# Altium footprint library mcu-chip.PcbLib: 82 footprints (part 4 of 6)
Each footprint in its own frame and in the unit in brackets; x right, y up, seen from the top. Pads: shape width x height; smd on the part's side, far side on the other; paste and mask are expansions set on the pad; w line width, h text height; cw(c..) or ccw(c..) is an arc to the next point about the centre after c.
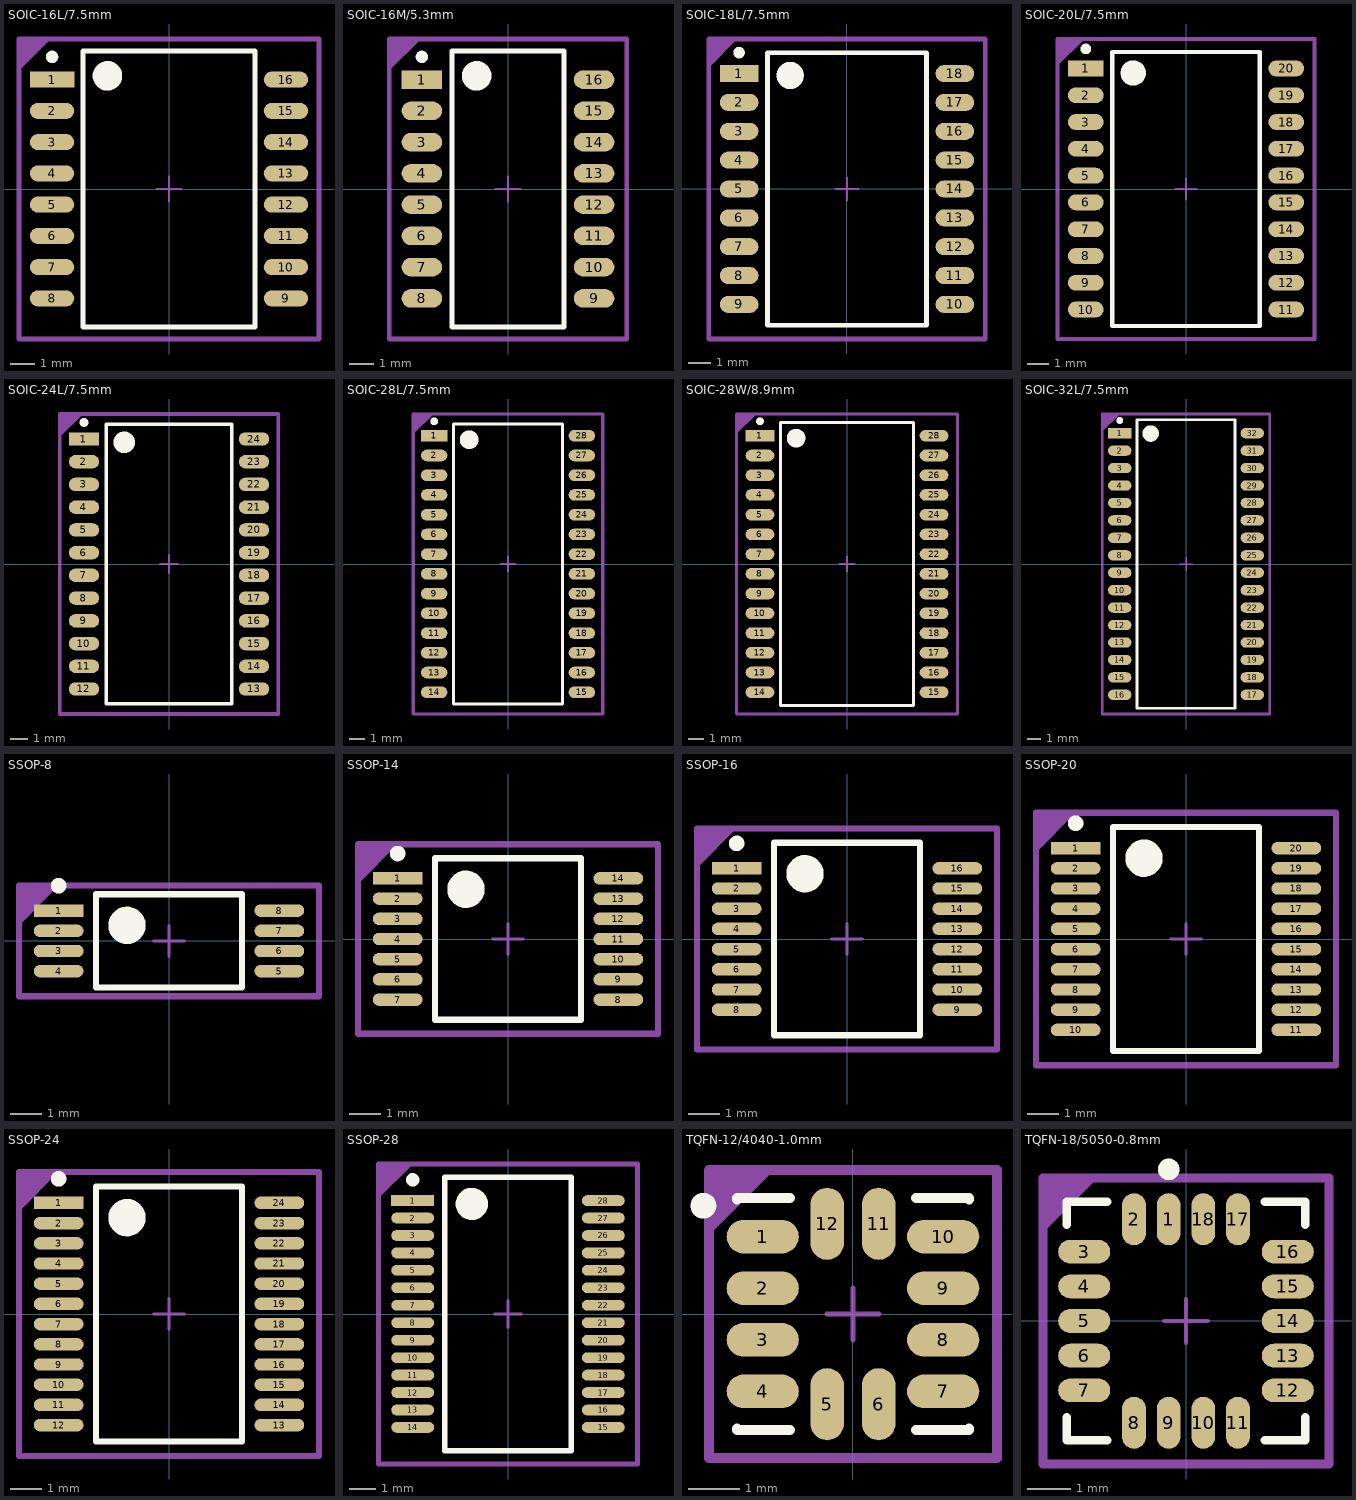
[diagram p3: the footprints below, top view; thin cyan lines are the x and y axes]

## SOIC-16L/7.5mm [mm] "SOIC, 16-Leads, Body 10,60x7,50mm, Pitch 1,27mm, IPC Medium Density"
height 1.7
pads (16):
  rect 1.8x0.65 smd: 1(-4.75,4.445)
  oval 1.8x0.65 smd: 2(-4.75,3.175) 3(-4.75,1.905) 4(-4.75,0.635) 5(-4.75,-0.635) 6(-4.75,-1.905) 7(-4.75,-3.175) 8(-4.75,-4.445) 9(4.75,-4.445) 10(4.75,-3.175) 11(4.75,-1.905) 12(4.75,-0.635) 13(4.75,0.635) 14(4.75,1.905) 15(4.75,3.175) 16(4.75,4.445)
Top Overlay:
  circle w0.25: c-4.75,5.37 r0.125
  circle w0.6: c-2.5,4.6 r0.3
  lines w0.2: -3.5,-5.6 -3.5,5.6 3.5,5.6 3.5,-5.6 -3.5,-5.6
Mechanical 13:
  region: -6.096,6.096 -6.096,4.826 -4.826,6.096
  lines w0.2: -6.096,-6.096 -6.096,6.096 6.096,6.096 6.096,-6.096 -6.096,-6.096
  text ".Designator" at -2.77,-0.67 h1.6
Mechanical 15:
  lines w0.05: -6.096,-6.096 -6.096,6.096 6.096,6.096 6.096,-6.096 -6.096,-6.096
  lines w0.1: -0.5,0 0.5,0 ; 0,-0.5 0,0.5
3D body: height 1.7, standoff 0.1, extent -3.75,-5.6 3.75,5.6

## SOIC-16M/5.3mm [mm] "SOIC, 16-Leads, Body 10,60x5,60mm, Pitch 1,27mm, IPC Medium Density"
height 1.7
pads (16):
  rect 1.65x0.75 smd: 1(-3.5,4.445)
  oval 1.65x0.75 smd: 2(-3.5,3.175) 3(-3.5,1.905) 4(-3.5,0.635) 5(-3.5,-0.635) 6(-3.5,-1.905) 7(-3.5,-3.175) 8(-3.5,-4.445) 9(3.5,-4.445) 10(3.5,-3.175) 11(3.5,-1.905) 12(3.5,-0.635) 13(3.5,0.635) 14(3.5,1.905) 15(3.5,3.175) 16(3.5,4.445)
Top Overlay:
  circle w0.25: c-3.5,5.37 r0.125
  circle w0.6: c-1.275,4.6 r0.3
  lines w0.2: -2.275,-5.6 -2.275,5.6 2.275,5.6 2.275,-5.6 -2.275,-5.6
Mechanical 13:
  region: -4.826,6.096 -4.826,4.826 -3.556,6.096
  lines w0.2: -4.826,-6.096 -4.826,6.096 4.826,6.096 4.826,-6.096 -4.826,-6.096
  text ".Designator" at -2.66,-0.71 h1.6
Mechanical 15:
  lines w0.05: -4.826,-6.096 -4.826,6.096 4.826,6.096 4.826,-6.096 -4.826,-6.096
  lines w0.1: -0.5,0 0.5,0 ; 0,-0.5 0,0.5
3D body: height 1.7, standoff 0.1, extent -2.8,-5.6 2.8,5.6

## SOIC-18L/7.5mm [mm] "SOIC, 18-Leads, Body 11,75x7,50mm, Pitch 1,27mm, IPC Medium Density"
height 1.7
pads (18):
  rect 1.7x0.75 smd: 1(-4.75,5.08)
  oval 1.7x0.75 smd: 2(-4.75,3.81) 3(-4.75,2.54) 4(-4.75,1.27) 5(-4.75,0) 6(-4.75,-1.27) 7(-4.75,-2.54) 8(-4.75,-3.81) 9(-4.75,-5.08) 10(4.75,-5.08) 11(4.75,-3.81) 12(4.75,-2.54) 13(4.75,-1.27) 14(4.75,0) 15(4.75,1.27) 16(4.75,2.54) 17(4.75,3.81) 18(4.75,5.08)
Top Overlay:
  circle w0.6: c-2.5,5 r0.3
  circle w0.25: c-4.75,6.005 r0.125
  lines w0.2: -3.5,-6 3.5,-6 3.5,6 -3.5,6 -3.5,-6
Mechanical 13:
  region: -6.096,6.604 -6.096,5.334 -4.826,6.604
  lines w0.2: -6.096,-6.604 6.096,-6.604 6.096,6.604 -6.096,6.604 -6.096,-6.604
  text ".Designator" at -3.36,-0.85 h2
Mechanical 15:
  lines w0.05: -6.096,-6.604 6.096,-6.604 6.096,6.604 -6.096,6.604 -6.096,-6.604
  lines w0.1: -0.5,0 0.5,0 ; 0,-0.5 0,0.5
3D body: height 1.7, standoff 0.1, extent -3.75,-6 3.75,6

## SOIC-20L/7.5mm [mm] "SOIC, 20-Leads, Body 12,70x7,50mm, Pitch 1,27mm, IPC Medium Density"
height 1.7
pads (20):
  rect 1.7x0.75 smd: 1(-4.75,5.715)
  oval 1.7x0.75 smd: 2(-4.75,4.445) 3(-4.75,3.175) 4(-4.75,1.905) 5(-4.75,0.635) 6(-4.75,-0.635) 7(-4.75,-1.905) 8(-4.75,-3.175) 9(-4.75,-4.445) 10(-4.75,-5.715) 11(4.75,-5.715) 12(4.75,-4.445) 13(4.75,-3.175) 14(4.75,-1.905) 15(4.75,-0.635) 16(4.75,0.635) 17(4.75,1.905) 18(4.75,3.175) 19(4.75,4.445) 20(4.75,5.715)
Top Overlay:
  circle w0.6: c-2.5,5.5 r0.3
  circle w0.25: c-4.75,6.64 r0.125
  lines w0.2: -3.5,-6.5 3.5,-6.5 3.5,6.5 -3.5,6.5 -3.5,-6.5
Mechanical 13:
  region: -6.096,7.112 -6.096,5.842 -4.826,7.112
  lines w0.2: -6.096,-7.112 6.096,-7.112 6.096,7.112 -6.096,7.112 -6.096,-7.112
  text ".Designator" at -3.33,-0.94 h2
Mechanical 15:
  lines w0.05: -6.096,-7.112 6.096,-7.112 6.096,7.112 -6.096,7.112 -6.096,-7.112
  lines w0.1: -0.5,0 0.5,0 ; 0,-0.5 0,0.5
3D body: height 1.7, standoff 0.1, extent -3.75,-6.5 3.75,6.5

## SOIC-24L/7.5mm [mm] "SOIC, 24-Leads, Body 15,30x7,50mm, Pitch 1,27mm, IPC Medium Density"
height 1.7
pads (24):
  rect 1.7x0.75 smd: 1(-4.75,6.985)
  oval 1.7x0.75 smd: 2(-4.75,5.715) 3(-4.75,4.445) 4(-4.75,3.175) 5(-4.75,1.905) 6(-4.75,0.635) 7(-4.75,-0.635) 8(-4.75,-1.905) 9(-4.75,-3.175) 10(-4.75,-4.445) 11(-4.75,-5.715) 12(-4.75,-6.985) 13(4.75,-6.985) 14(4.75,-5.715) 15(4.75,-4.445) 16(4.75,-3.175) 17(4.75,-1.905) 18(4.75,-0.635) 19(4.75,0.635) 20(4.75,1.905) 21(4.75,3.175) 22(4.75,4.445) 23(4.75,5.715) 24(4.75,6.985)
Top Overlay:
  circle w0.6: c-2.5,6.8 r0.3
  circle w0.25: c-4.75,7.91 r0.125
  lines w0.2: -3.5,-7.8 3.5,-7.8 3.5,7.8 -3.5,7.8 -3.5,-7.8
Mechanical 13:
  region: -6.096,8.382 -6.096,7.112 -4.826,8.382
  lines w0.2: -6.096,-8.382 6.096,-8.382 6.096,8.382 -6.096,8.382 -6.096,-8.382
  text ".Designator" at -3.33,-0.87 h2
Mechanical 15:
  lines w0.05: -6.096,-8.382 6.096,-8.382 6.096,8.382 -6.096,8.382 -6.096,-8.382
  lines w0.1: -0.5,0 0.5,0 ; 0,-0.5 0,0.5
3D body: height 1.7, standoff 0.1, extent -3.75,-7.8 3.75,7.8

## SOIC-28L/7.5mm [mm] "SOIC, 28-Leads, Body 17,90x7,50mm, Pitch 1,27mm, IPC Medium Density"
height 1.7
pads (28):
  rect 1.7x0.75 smd: 1(-4.75,8.255)
  oval 1.7x0.75 smd: 2(-4.75,6.985) 3(-4.75,5.715) 4(-4.75,4.445) 5(-4.75,3.175) 6(-4.75,1.905) 7(-4.75,0.635) 8(-4.75,-0.635) 9(-4.75,-1.905) 10(-4.75,-3.175) 11(-4.75,-4.445) 12(-4.75,-5.715) 13(-4.75,-6.985) 14(-4.75,-8.255) 15(4.75,-8.255) 16(4.75,-6.985) 17(4.75,-5.715) 18(4.75,-4.445) 19(4.75,-3.175) 20(4.75,-1.905) 21(4.75,-0.635) 22(4.75,0.635) 23(4.75,1.905) 24(4.75,3.175) 25(4.75,4.445) 26(4.75,5.715) 27(4.75,6.985) 28(4.75,8.255)
Top Overlay:
  circle w0.25: c-4.75,9.18 r0.125
  circle w0.6: c-2.5,8 r0.3
  lines w0.2: -3.5,-9 -3.5,9 3.5,9 3.5,-9 -3.5,-9
Mechanical 13:
  region: -6.096,9.652 -6.096,8.382 -4.826,9.652
  lines w0.2: -6.096,-9.652 -6.096,9.652 6.096,9.652 6.096,-9.652 -6.096,-9.652
  text ".Designator" at -3.33,-0.9 h2
Mechanical 15:
  lines w0.05: -6.096,-9.652 -6.096,9.652 6.096,9.652 6.096,-9.652 -6.096,-9.652
  lines w0.1: -0.5,0 0.5,0 ; 0,-0.5 0,0.5
3D body: height 1.7, standoff 0.1, extent -3.75,-9 3.75,9

## SOIC-28W/8.9mm [mm] "SOIC, 28-Leads, Body 18,10x8,80mm, Pitch 1,27mm, IPC Medium Density"
height 1.7
pads (28):
  rect 1.85x0.75 smd: 1(-5.6,8.255)
  oval 1.85x0.75 smd: 2(-5.6,6.985) 3(-5.6,5.715) 4(-5.6,4.445) 5(-5.6,3.175) 6(-5.6,1.905) 7(-5.6,0.635) 8(-5.6,-0.635) 9(-5.6,-1.905) 10(-5.6,-3.175) 11(-5.6,-4.445) 12(-5.6,-5.715) 13(-5.6,-6.985) 14(-5.6,-8.255) 15(5.6,-8.255) 16(5.6,-6.985) 17(5.6,-5.715) 18(5.6,-4.445) 19(5.6,-3.175) 20(5.6,-1.905) 21(5.6,-0.635) 22(5.6,0.635) 23(5.6,1.905) 24(5.6,3.175) 25(5.6,4.445) 26(5.6,5.715) 27(5.6,6.985) 28(5.6,8.255)
Top Overlay:
  circle w0.25: c-5.6,9.18 r0.125
  circle w0.6: c-3.275,8.1 r0.3
  lines w0.2: -4.275,-9.1 -4.275,9.1 4.275,9.1 4.275,-9.1 -4.275,-9.1
Mechanical 13:
  region: -7.112,9.652 -7.112,8.382 -5.842,9.652
  lines w0.2: -7.112,-9.652 -7.112,9.652 7.112,9.652 7.112,-9.652 -7.112,-9.652
  text ".Designator" at -3.33,-0.96 h2
Mechanical 15:
  lines w0.05: -7.112,-9.652 -7.112,9.652 7.112,9.652 7.112,-9.652 -7.112,-9.652
  lines w0.1: -0.5,0 0.5,0 ; 0,-0.5 0,0.5
3D body: height 1.7, standoff 0.1, extent -4.5,-9.1 4.5,9.1

## SOIC-32L/7.5mm [mm] "SOIC, 32-Leads, Body 20,80x7,50mm, Pitch 1,27mm, IPC Medium Density"
height 1.7
pads (32):
  rect 1.7x0.75 smd: 1(-4.825,9.525)
  oval 1.7x0.75 smd: 2(-4.825,8.255) 3(-4.825,6.985) 4(-4.825,5.715) 5(-4.825,4.445) 6(-4.825,3.175) 7(-4.825,1.905) 8(-4.825,0.635) 9(-4.825,-0.635) 10(-4.825,-1.905) 11(-4.825,-3.175) 12(-4.825,-4.445) 13(-4.825,-5.715) 14(-4.825,-6.985) 15(-4.825,-8.255) 16(-4.825,-9.525) 17(4.825,-9.525) 18(4.825,-8.255) 19(4.825,-6.985) 20(4.825,-5.715) 21(4.825,-4.445) 22(4.825,-3.175) 23(4.825,-1.905) 24(4.825,-0.635) 25(4.825,0.635) 26(4.825,1.905) 27(4.825,3.175) 28(4.825,4.445) 29(4.825,5.715) 30(4.825,6.985) 31(4.825,8.255) 32(4.825,9.525)
Top Overlay:
  circle w0.25: c-4.825,10.45 r0.125
  circle w0.6: c-2.575,9.5 r0.3
  lines w0.2: -3.575,-10.5 -3.575,10.5 3.575,10.5 3.575,-10.5 -3.575,-10.5
Mechanical 13:
  region: -6.096,10.922 -6.096,9.652 -4.826,10.922
  lines w0.2: -6.096,-10.922 -6.096,10.922 6.096,10.922 6.096,-10.922 -6.096,-10.922
  text ".Designator" at -3.36,-0.92 h2
Mechanical 15:
  lines w0.05: -6.096,-10.922 -6.096,10.922 6.096,10.922 6.096,-10.922 -6.096,-10.922
  lines w0.1: -0.5,0 0.5,0 ; 0,-0.5 0,0.5
3D body: height 1.7, standoff 0.1, extent -3.75,-10.5 3.75,10.5

## SSOP-8 [mm] "SOP, 8-Leads, Body 3,00x5,30mm, Pitch 0,65mm, IPC Medium Density"
height 1.9
pads (8):
  rect 1.6x0.4 smd: 1(-3.55,0.975)
  oval 1.6x0.4 smd: 2(-3.55,0.325) 3(-3.55,-0.325) 4(-3.55,-0.975) 5(3.55,-0.975) 6(3.55,-0.325) 7(3.55,0.325) 8(3.55,0.975)
Top Overlay:
  circle w0.6: c-1.35,0.5 r0.3
  circle w0.25: c-3.55,1.775 r0.125
  lines w0.2: -2.35,-1.5 2.35,-1.5 2.35,1.5 -2.35,1.5 -2.35,-1.5
Mechanical 13:
  region: -4.826,1.778 -4.826,0.508 -3.556,1.778
  lines w0.2: -4.826,-1.778 4.826,-1.778 4.826,1.778 -4.826,1.778 -4.826,-1.778
  text ".Designator" at -2.66,-0.74 h1.6
Mechanical 15:
  lines w0.05: -4.826,-1.778 4.826,-1.778 4.826,1.778 -4.826,1.778 -4.826,-1.778
  lines w0.1: -0.5,0 0.5,0 ; 0,-0.5 0,0.5
3D body: height 1.9, standoff 0.1, extent -2.65,-1.5 2.65,1.5

## SSOP-14 [mm] "SOP, 14-Leads, Body 5,05x5,30mm, Pitch 0,65mm, IPC Medium Density"
height 1.9
pads (14):
  rect 1.6x0.4 smd: 1(-3.55,1.95)
  oval 1.6x0.4 smd: 2(-3.55,1.3) 3(-3.55,0.65) 4(-3.55,0) 5(-3.55,-0.65) 6(-3.55,-1.3) 7(-3.55,-1.95) 8(3.55,-1.95) 9(3.55,-1.3) 10(3.55,-0.65) 11(3.55,0) 12(3.55,0.65) 13(3.55,1.3) 14(3.55,1.95)
Top Overlay:
  circle w0.6: c-1.35,1.6 r0.3
  circle w0.25: c-3.55,2.75 r0.125
  lines w0.2: -2.35,-2.6 2.35,-2.6 2.35,2.6 -2.35,2.6 -2.35,-2.6
Mechanical 13:
  region: -4.826,3.048 -4.826,1.778 -3.556,3.048
  lines w0.2: -4.826,-3.048 4.826,-3.048 4.826,3.048 -4.826,3.048 -4.826,-3.048
  text ".Designator" at -2.68,-0.66 h1.6
Mechanical 15:
  lines w0.05: -4.826,-3.048 4.826,-3.048 4.826,3.048 -4.826,3.048 -4.826,-3.048
  lines w0.1: -0.5,0 0.5,0 ; 0,-0.5 0,0.5
3D body: height 1.9, standoff 0.1, extent -2.65,-2.6 2.65,2.6

## SSOP-16 [mm] "SOP, 16-Leads, Body 6,10x5,30mm, Pitch 0,65mm, IPC Medium Density"
height 1.9
pads (16):
  rect 1.6x0.4 smd: 1(-3.55,2.275)
  oval 1.6x0.4 smd: 2(-3.55,1.625) 3(-3.55,0.975) 4(-3.55,0.325) 5(-3.55,-0.325) 6(-3.55,-0.975) 7(-3.55,-1.625) 8(-3.55,-2.275) 9(3.55,-2.275) 10(3.55,-1.625) 11(3.55,-0.975) 12(3.55,-0.325) 13(3.55,0.325) 14(3.55,0.975) 15(3.55,1.625) 16(3.55,2.275)
Top Overlay:
  circle w0.25: c-3.55,3.075 r0.125
  circle w0.6: c-1.35,2.1 r0.3
  lines w0.2: -2.35,-3.1 -2.35,3.1 2.35,3.1 2.35,-3.1 -2.35,-3.1
Mechanical 13:
  region: -4.826,3.556 -4.826,2.286 -3.556,3.556
  lines w0.2: -4.826,-3.556 -4.826,3.556 4.826,3.556 4.826,-3.556 -4.826,-3.556
  text ".Designator" at -2.68,-0.71 h1.6
Mechanical 15:
  lines w0.05: -4.826,-3.556 -4.826,3.556 4.826,3.556 4.826,-3.556 -4.826,-3.556
  lines w0.1: -0.5,0 0.5,0 ; 0,-0.5 0,0.5
3D body: height 1.9, standoff 0.1, extent -2.65,-3.1 2.65,3.1

## SSOP-20 [mm] "SOP, 20-Leads, Body 7,20x5,30mm, Pitch 0,65mm, IPC Medium Density"
height 1.9
pads (20):
  rect 1.6x0.4 smd: 1(-3.55,2.925)
  oval 1.6x0.4 smd: 2(-3.55,2.275) 3(-3.55,1.625) 4(-3.55,0.975) 5(-3.55,0.325) 6(-3.55,-0.325) 7(-3.55,-0.975) 8(-3.55,-1.625) 9(-3.55,-2.275) 10(-3.55,-2.925) 11(3.55,-2.925) 12(3.55,-2.275) 13(3.55,-1.625) 14(3.55,-0.975) 15(3.55,-0.325) 16(3.55,0.325) 17(3.55,0.975) 18(3.55,1.625) 19(3.55,2.275) 20(3.55,2.925)
Top Overlay:
  circle w0.6: c-1.35,2.6 r0.3
  circle w0.25: c-3.55,3.725 r0.125
  lines w0.2: -2.35,-3.6 2.35,-3.6 2.35,3.6 -2.35,3.6 -2.35,-3.6
Mechanical 13:
  region: -4.826,4.064 -4.826,2.794 -3.556,4.064
  lines w0.2: -4.826,-4.064 4.826,-4.064 4.826,4.064 -4.826,4.064 -4.826,-4.064
  text ".Designator" at -2.68,-0.75 h1.6
Mechanical 15:
  lines w0.05: -4.826,-4.064 4.826,-4.064 4.826,4.064 -4.826,4.064 -4.826,-4.064
  lines w0.1: -0.5,0 0.5,0 ; 0,-0.5 0,0.5
3D body: height 1.9, standoff 0.1, extent -2.65,-3.6 2.65,3.6

## SSOP-24 [mm] "SOP, 24-Leads, Body 8,20x5,30mm, Pitch 0,65mm, IPC Medium Density"
height 1.9
pads (24):
  rect 1.6x0.4 smd: 1(-3.55,3.575)
  oval 1.6x0.4 smd: 2(-3.55,2.925) 3(-3.55,2.275) 4(-3.55,1.625) 5(-3.55,0.975) 6(-3.55,0.325) 7(-3.55,-0.325) 8(-3.55,-0.975) 9(-3.55,-1.625) 10(-3.55,-2.275) 11(-3.55,-2.925) 12(-3.55,-3.575) 13(3.55,-3.575) 14(3.55,-2.925) 15(3.55,-2.275) 16(3.55,-1.625) 17(3.55,-0.975) 18(3.55,-0.325) 19(3.55,0.325) 20(3.55,0.975) 21(3.55,1.625) 22(3.55,2.275) 23(3.55,2.925) 24(3.55,3.575)
Top Overlay:
  circle w0.6: c-1.35,3.1 r0.3
  circle w0.25: c-3.55,4.35 r0.125
  lines w0.2: -2.35,-4.1 2.35,-4.1 2.35,4.1 -2.35,4.1 -2.35,-4.1
Mechanical 13:
  region: -4.826,4.572 -4.826,3.302 -3.556,4.572
  lines w0.2: -4.826,-4.572 4.826,-4.572 4.826,4.572 -4.826,4.572 -4.826,-4.572
  text ".Designator" at -2.66,-0.73 h1.6
Mechanical 15:
  lines w0.05: -4.826,-4.572 4.826,-4.572 4.826,4.572 -4.826,4.572 -4.826,-4.572
  lines w0.1: -0.5,0 0.5,0 ; 0,-0.5 0,0.5
3D body: height 1.9, standoff 0.1, extent -2.65,-4.1 2.65,4.1

## SSOP-28 [mm] "SOP, 28-Leads, Body 10,10x5,30mm, Pitch 0,65mm, IPC Medium Density"
height 1.9
pads (28):
  rect 1.6x0.4 smd: 1(-3.55,4.225)
  oval 1.6x0.4 smd: 2(-3.55,3.575) 3(-3.55,2.925) 4(-3.55,2.275) 5(-3.55,1.625) 6(-3.55,0.975) 7(-3.55,0.325) 8(-3.55,-0.325) 9(-3.55,-0.975) 10(-3.55,-1.625) 11(-3.55,-2.275) 12(-3.55,-2.925) 13(-3.55,-3.575) 14(-3.55,-4.225) 15(3.55,-4.225) 16(3.55,-3.575) 17(3.55,-2.925) 18(3.55,-2.275) 19(3.55,-1.625) 20(3.55,-0.975) 21(3.55,-0.325) 22(3.55,0.325) 23(3.55,0.975) 24(3.55,1.625) 25(3.55,2.275) 26(3.55,2.925) 27(3.55,3.575) 28(3.55,4.225)
Top Overlay:
  circle w0.25: c-3.55,5 r0.125
  circle w0.6: c-1.35,4.1 r0.3
  lines w0.2: -2.35,-5.1 -2.35,5.1 2.35,5.1 2.35,-5.1 -2.35,-5.1
Mechanical 13:
  region: -4.826,5.588 -4.826,4.318 -3.556,5.588
  lines w0.2: -4.826,-5.588 -4.826,5.588 4.826,5.588 4.826,-5.588 -4.826,-5.588
  text ".Designator" at -2.67,-0.8 h1.6
Mechanical 15:
  lines w0.05: -4.826,-5.588 -4.826,5.588 4.826,5.588 4.826,-5.588 -4.826,-5.588
  lines w0.1: -0.5,0 0.5,0 ; 0,-0.5 0,0.5
3D body: height 1.9, standoff 0.1, extent -2.65,-5.1 2.65,5.1

## TQFN-12/4040-1.0mm [mm] "QFN, 12-Leads, Body 4,00x4,00mm, Pitch 1,00mm, IPC Medium Density"
height 0.9
pads (12):
  oval 1.4x0.65 smd: 1(-1.75,1.5) 2(-1.75,0.5) 3(-1.75,-0.5) 4(-1.75,-1.5) 7(1.75,-1.5) 8(1.75,-0.5) 9(1.75,0.5) 10(1.75,1.5)
  oval 0.65x1.4 smd: 5(-0.5,-1.75) 6(0.5,-1.75) 11(0.5,1.75) 12(-0.5,1.75)
Top Overlay:
  circle w0.25: c-2.9,2.1 r0.125
  lines w0.2: -2.25,-2.225 -2.25,-2.25 -1.225,-2.25 ; -2.25,2.225 -2.25,2.25 -1.225,2.25 ; 1.225,-2.25 2.25,-2.25 2.25,-2.225 ; 1.225,2.25 2.25,2.25 2.25,2.225
Mechanical 13:
  region: -2.794,2.794 -2.794,1.524 -1.524,2.794
  lines w0.2: -2.794,-2.794 2.794,-2.794 2.794,2.794 -2.794,2.794 -2.794,-2.794
  text ".Designator" at -1.66,-0.42 h1
Mechanical 15:
  lines w0.05: -2.794,-2.794 2.794,-2.794 2.794,2.794 -2.794,2.794 -2.794,-2.794
  lines w0.1: -0.5,0 0.5,0 ; 0,-0.5 0,0.5
3D body: height 0.9, standoff 0.1, extent -2.1,-2.1 2.1,2.1

## TQFN-18/5050-0.8mm [mm] "QFN, 18-Leads, Body 5,00x5,00mm, Pitch 0,80mm, IPC Medium Density"
height 0.9
pads (18):
  oval 0.55x1.2 smd: 1(-0.4,2.35) 2(-1.2,2.35) 8(-1.2,-2.35) 9(-0.4,-2.35) 10(0.4,-2.35) 11(1.2,-2.35) 17(1.2,2.35) 18(0.4,2.35)
  oval 1.2x0.55 smd: 3(-2.35,1.6) 4(-2.35,0.8) 5(-2.35,0) 6(-2.35,-0.8) 7(-2.35,-1.6) 12(2.35,-1.6) 13(2.35,-0.8) 14(2.35,0) 15(2.35,0.8) 16(2.35,1.6)
Top Overlay:
  circle w0.25: c-0.4,3.5 r0.125
  lines w0.2: -2.75,-2.225 -2.75,-2.75 -1.825,-2.75 ; -2.75,2.225 -2.75,2.75 -1.825,2.75 ; 1.825,-2.75 2.75,-2.75 2.75,-2.225 ; 1.825,2.75 2.75,2.75 2.75,2.225
Mechanical 13:
  region: -3.302,3.302 -3.302,2.032 -2.032,3.302
  lines w0.2: -3.302,-3.302 3.302,-3.302 3.302,3.302 -3.302,3.302 -3.302,-3.302
  text ".Designator" at -2.36,-0.54 h1.4
Mechanical 15:
  lines w0.05: -3.302,-3.302 3.302,-3.302 3.302,3.302 -3.302,3.302 -3.302,-3.302
  lines w0.1: -0.5,0 0.5,0 ; 0,-0.5 0,0.5
3D body: height 0.9, standoff 0.1, extent -2.6,-2.6 2.6,2.6